# EAGLE library part STM32F103C8T6 (library ali_exp_morsels)
STM32F103C8T6 stm32 STM32 STM32F103
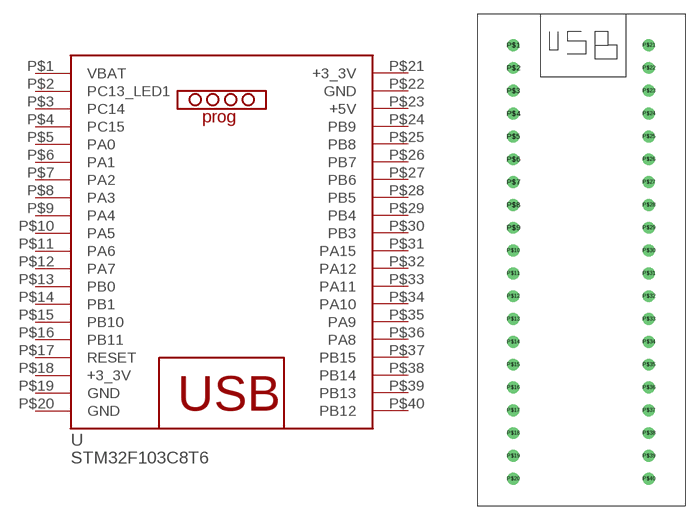
[diagram p0: symbol with the pads of STM32F103C8T6; footprint STM32F103C8T6]

Designator prefix -

## STM32F103C8T6  [STM32F103C8T6]
P$1  VBAT
P$2  PC13_LED1
P$3  PC14
P$4  PC15
P$5  PA0
P$6  PA1
P$7  PA2
P$8  PA3
P$9  PA4
P$10  PA5
P$11  PA6
P$12  PA7
P$13  PB0
P$14  PB1
P$15  PB10
P$16  PB11
P$17  RESET
P$18  +3_3V
P$19  GND
P$20  GND
P$21  +3_3V
P$22  GND
P$23  +5V
P$24  PB9
P$25  PB8
P$26  PB7
P$27  PB6
P$28  PB5
P$29  PB4
P$30  PB3
P$31  PA15
P$32  PA12
P$33  PA11
P$34  PA10
P$35  PA9
P$36  PA8
P$37  PB15
P$38  PB14
P$39  PB13
P$40  PB12

## Footprint STM32F103C8T6 (pad centres in mm)
STM32F103C8T6 stm32 STM32
drill 0.8: P$1 -7.5,0; P$2 -7.5,-2.526; P$3 -7.5,-5.052; P$4 -7.5,-7.578; P$5 -7.5,-10.104; P$6 -7.5,-12.63; P$7 -7.5,-15.156; P$8 -7.5,-17.682; P$9 -7.5,-20.208; P$10 -7.5,-22.734; P$11 -7.5,-25.26; P$12 -7.5,-27.786; P$13 -7.5,-30.312; P$14 -7.5,-32.838; P$15 -7.5,-35.364; P$16 -7.5,-37.89; P$17 -7.5,-40.416; P$18 -7.5,-42.942; P$19 -7.5,-45.468; P$20 -7.5,-47.994; P$21 7.5,0; P$22 7.5,-2.526; P$23 7.5,-5.052; P$24 7.5,-7.578; P$25 7.5,-10.104; P$26 7.5,-12.63; P$27 7.5,-15.156; P$28 7.5,-17.682; P$29 7.5,-20.208; P$30 7.5,-22.734; P$31 7.5,-25.26; P$32 7.5,-27.786; P$33 7.5,-30.312; P$34 7.5,-32.838; P$35 7.5,-35.364; P$36 7.5,-37.89; P$37 7.5,-40.416; P$38 7.5,-42.942; P$39 7.5,-45.468; P$40 7.5,-47.994